# Altium footprint library Common.PcbLib: 18 footprints (part 1 of 2)
Each footprint in its own frame and in the unit in brackets; x right, y up, seen from the top. Pads: shape width x height; smd on the part's side, far side on the other; paste and mask are expansions set on the pad; w line width, h text height; cw(c..) or ccw(c..) is an arc to the next point about the centre after c.
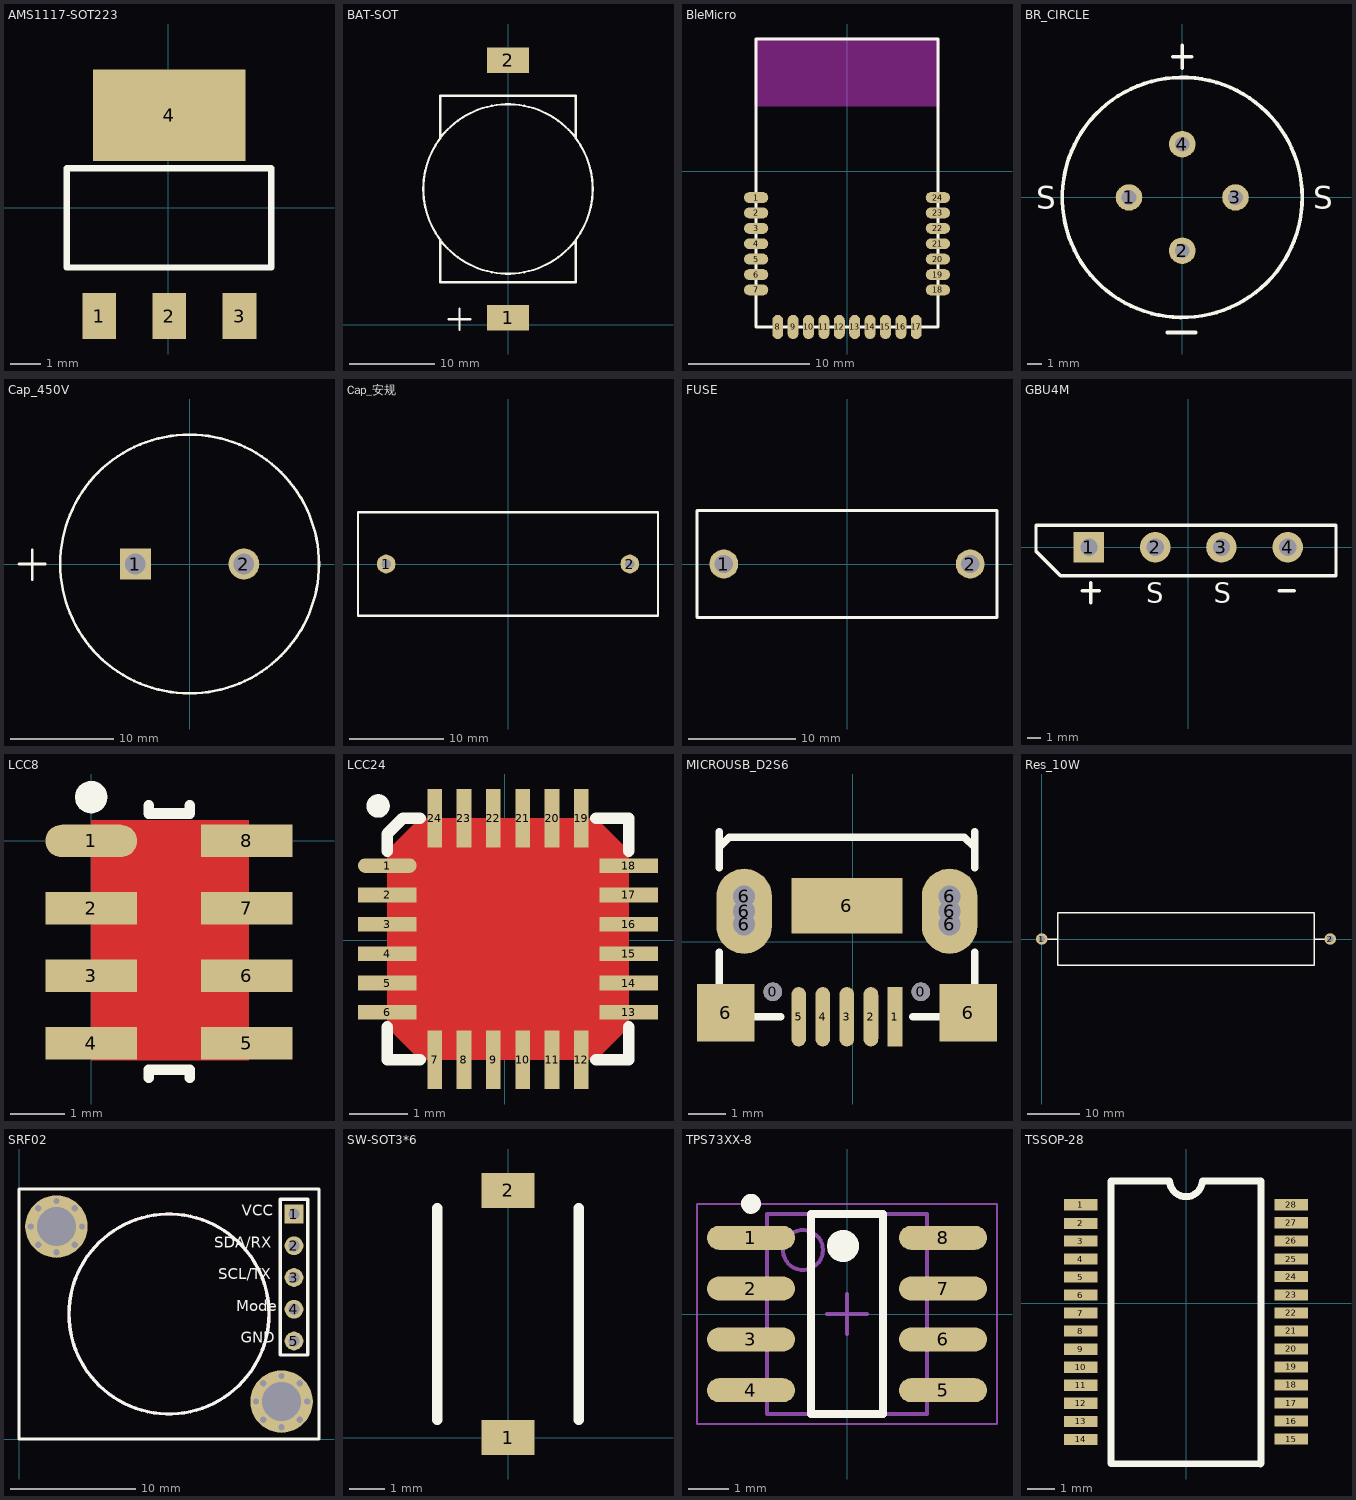
[diagram p0: the footprints below, top view; thin cyan lines are the x and y axes]

## AMS1117-SOT223 [mm]
pads (4):
  rect 1.1x1.5 smd: 1(-2.264,-3.548) 2(0.036,-3.548) 3(2.336,-3.548)
  rect 5x3 smd: 4(0.03,3.028)
Top Overlay:
  lines w0.2: -3.325,-1.956 -3.325,1.294 3.375,1.294 3.375,-1.956 -3.325,-1.956
3D body: height 1.7, standoff 0, extent -3.195,-3.78 3.305,3.18

## BAT-SOT [mm] "贴片封装"
height 5.5
pads (2):
  rect 5x3 smd: 1(0,0.8) 2(0,31.2)
Top Overlay:
  circle w0.254: c0,16 r10
  lines w0.254: -8,10.032 -8,5 8,5 8,9.905 ; -8,21.972 -8,27 8,27 8,21.972 ; -6.985,0.635 -4.445,0.635 ; -5.715,-0.635 -5.715,1.905

## BleMicro [mm]
height 1.7
pads (24):
  oval 2x0.9 smd: 1(-7.493,-2.159) 2(-7.493,-3.429) 3(-7.493,-4.699) 4(-7.493,-5.969) 5(-7.493,-7.239) 6(-7.493,-8.509) 7(-7.493,-9.779) 18(7.493,-9.779) 19(7.493,-8.509) 20(7.493,-7.239) 21(7.493,-5.969) 22(7.493,-4.699) 23(7.493,-3.429) 24(7.493,-2.159)
  oval 0.9x2 smd: 8(-5.715,-12.827) 9(-4.445,-12.827) 10(-3.175,-12.827) 11(-1.905,-12.827) 12(-0.635,-12.827) 13(0.635,-12.827) 14(1.905,-12.827) 15(3.175,-12.827) 16(4.445,-12.827) 17(5.715,-12.827)
Top Overlay:
  lines w0.254: -7.493,-12.827 7.493,-12.827 7.493,10.922 -7.493,10.922 -7.493,-12.827
Keep-Out Layer:
  board cut-out: -7.493,10.922 -7.493,5.461 7.493,5.461 7.493,10.922
  lines w0.254: -7.493,5.461 7.493,5.461 7.493,10.922 -7.493,10.922 -7.493,5.461

## BR_CIRCLE [mm]
height 5.35
pads (4):
  round 1.8 hole 1: 1(-3.606,0) 2(0,-3.606) 3(3.606,0) 4(0,3.606)
Top Overlay:
  circle w0.254: c0,0 r8.129
  lines w0.254: -1.016,-9.144 0.889,-9.144 ; -0.635,9.525 0.635,9.525 ; 0,8.763 0,10.287
  text "S" at -9.906,-0.762 h1.52
  text "S" at 8.89,-0.762 h1.52

## Cap_450V [mm]
height 42
pads (2):
  rect 3x3 hole 2: 1(-5.25,0)
  round 3 hole 2: 2(5.25,0)
Top Overlay:
  circle w0.254: c0,0 r12.524
  lines w0.254: -16.51,0 -13.97,0 ; -15.24,-1.524 -15.24,1.397

## Cap_安规 [mm]
height 20
pads (2):
  round 2 hole 1: 1(-13,0) 2(13,0)
Top Overlay:
  lines w0.254: -16,-5.5 -16,5.5 16,5.5 16,-5.5 -16,-5.5

## FUSE [mm] "保险丝座"
height 17
pads (2):
  round 2.7 hole 1.7: 1(-11.5,0) 2(11.5,0)
Top Overlay:
  lines w0.254: -14,-5 -14,5 14,5 14,-5 -14,-5

## GBU4M [mm]
height 21
pads (4):
  rect 2.3x2.3 hole 1.3: 1(-7.5,0)
  round 2.3 hole 1.3: 2(-2.5,0) 3(2.5,0) 4(7.5,0)
Top Overlay:
  lines w0.254: -8.001,-3.302 -6.731,-3.302 ; -7.366,-4.191 -7.366,-2.667 ; 6.858,-3.302 8.001,-3.302 ; -11.5,-0.311 -9.651,-2.16 11.15,-2.16 11.15,1.651 -11.5,1.651 -11.5,-0.311
  text "S" at 1.905,-4.191 h1.52
  text "S" at -3.175,-4.191 h1.52

## LCC8 [mm]
pads (8):
  oval 1.7x0.6 smd: 1(0,0)
  rect 1.7x0.6 smd: 2(0,-1.25) 3(0,-2.5) 4(0,-3.75) 5(2.886,-3.75) 6(2.886,-2.5) 7(2.886,-1.25) 8(2.886,0)
Top Layer:
  pour cut-out: 0,0.381 0,-4.064 2.921,-4.064 2.921,0.381
Top Overlay:
  circle w0.3: c0,0.813 r0.15
  lines w0.2: 1.067,-4.392 1.067,-4.242 1.472,-4.242 ; 1.067,0.658 1.067,0.508 1.472,0.508 ; 1.422,-4.242 1.829,-4.242 1.829,-4.392 ; 1.422,0.508 1.829,0.508 1.829,0.658

## LCC24 [mm]
pads (24):
  oval 1x0.25 smd: 1(-2.001,1.27)
  rect 1x0.25 smd: 2(-2.001,0.77) 3(-2.001,0.27) 4(-2.001,-0.23) 5(-2.001,-0.73) 6(-2.001,-1.23) 13(2.109,-1.23) 14(2.109,-0.73) 15(2.109,-0.23) 16(2.109,0.27) 17(2.109,0.77) 18(2.109,1.27)
  rect 0.25x1 smd: 7(-1.196,-2.035) 8(-0.696,-2.035) 9(-0.196,-2.035) 10(0.304,-2.035) 11(0.804,-2.035) 12(1.304,-2.035) 19(1.304,2.075) 20(0.804,2.075) 21(0.304,2.075) 22(-0.196,2.075) 23(-0.696,2.075) 24(-1.196,2.075)
Top Layer:
  pour cut-out: -1.446,2.075 -2.001,1.52 -2.001,-1.48 -1.446,-2.035 1.554,-2.035 2.109,-1.48 2.109,1.52 1.554,2.075
Top Overlay:
  circle w0.2: c-2.159,2.286 r0.1
  lines w0.2: -2.001,-1.48 -2.001,-2.035 -1.446,-2.035 ; -2.001,1.52 -2.001,1.809 -1.735,2.075 -1.446,2.075 ; 1.554,-2.035 2.109,-2.035 ; 1.554,2.075 2.109,2.075 ; 2.109,-2.032 2.109,-1.48 ; 2.109,1.52 2.109,2.032

## MICROUSB_D2S6 [mm]
height 1.35
pads (16):
  round 0.5 hole 0.5: 0(-2.157,-1.357) 0(1.843,-1.357)
  rect 0.4x1.6 smd: 1(1.143,-2.032)
  oval 0.4x1.6 smd: 2(0.493,-2.032) 3(-0.157,-2.032) 4(-0.807,-2.032) 5(-1.457,-2.032)
  rect 1.55x1.55 smd: 6(-3.429,-1.929) 6(3.124,-1.929)
  round 0.8 hole 0.6: 6(-2.932,0.468) 6(-2.932,1.218) 6(2.618,0.468) 6(2.618,1.218)
  oval 1.5x2.3 hole 0.6: 6(-2.932,0.818) 6(2.618,0.818)
  rect 3x1.5 smd: 6(-0.157,0.968)
Top Overlay:
  lines w0.2: -3.607,-0.294 -3.607,-2.032 -1.935,-2.032 ; -3.607,1.992 -3.607,2.968 ; 1.621,-2.032 3.293,-2.032 3.293,-0.294 ; 3.293,1.992 3.293,2.968
  lines w0.203: -3.607,2.54 -3.329,2.818 2.872,2.818 3.015,2.818 3.293,2.54

## Res_10W [mm]
height 10
pads (2):
  round 2.2 hole 1.2: 1(0,0) 2(55,0)
Top Overlay:
  lines w0.254: 0,0 2.873,0 ; 52.127,0 55,0 ; 3,-5 3,5 52,5 52,-5 3,-5

## SRF02 [mm]
height 17
pads (7):
  rect 1.5x1.5 hole 0.9: 1(22,18)
  round 1.5 hole 0.9: 2(22,15.46) 3(22,12.92) 4(22,10.38) 5(22,7.84)
  round 5 hole 3.1: ""(3,17) ""(21,3)
via 3,14.95 diameter 0.6 hole 0.5
via 4.464,15.536 diameter 0.6 hole 0.5
via 1.536,15.536 diameter 0.6 hole 0.5
via 0.95,17 diameter 0.6 hole 0.5
via 3,19.05 diameter 0.6 hole 0.5
via 4.464,18.464 diameter 0.6 hole 0.5
via 5.05,17 diameter 0.6 hole 0.5
via 1.536,18.464 diameter 0.6 hole 0.5
via 21,0.95 diameter 0.6 hole 0.5
via 22.464,1.536 diameter 0.6 hole 0.5
via 19.536,1.536 diameter 0.6 hole 0.5
via 18.95,3 diameter 0.6 hole 0.5
via 21,5.05 diameter 0.6 hole 0.5
via 22.464,4.464 diameter 0.6 hole 0.5
via 23.05,3 diameter 0.6 hole 0.5
via 19.536,4.464 diameter 0.6 hole 0.5
Top Overlay:
  circle w0.254: c12,10 r8
  lines w0.254: 0,0 24,0 24,20 0,20 0,0 ; 20.9,6.731 20.9,19.177 23.1,19.177 23.1,6.731 20.9,6.731
  text "GND" at 17.74,7.366 h1.52
  text "Mode" at 17.37,9.905 h1.52
  text "SCL/TX" at 15.923,12.446 h1.52
  text "SDA/RX" at 15.621,14.986 h1.52
  text "VCC" at 17.806,17.526 h1.52
Mechanical 13:
  circle w0.254: c12,10 r8

## SW-SOT3*6 [mm]
height 2.5
pads (2):
  rect 1.5x1 smd: 1(0,0) 2(0,7)
Top Overlay:
  lines w0.3: -2,0.5 -2,6.5 ; 2,0.5 2,6.5

## TPS73XX-8 [mm] "SOIC, 8-Leads, Body 4.9x3.9mm, Pitch 1.27mm, IPC Medium Density"
height 1.75
pads (8):
  oval 2.2x0.6 smd: 1(-2.4,1.905) 2(-2.4,0.635) 3(-2.4,-0.635) 4(-2.4,-1.905) 5(2.4,-1.905) 6(2.4,-0.635) 7(2.4,0.635) 8(2.4,1.905)
Top Overlay:
  circle w0.25: c-2.4,2.755 r0.125
  circle w0.4: c-0.1,1.7 r0.2
  lines w0.2: -0.9,-2.5 -0.9,2.5 0.9,2.5 0.9,-2.5 -0.9,-2.5
Mechanical 13:
  circle w0.1: c-1.1,1.6 r0.5
  lines w0.1: -2,-2.5 -2,2.5 2,2.5 2,-2.5 -2,-2.5
Mechanical 15:
  lines w0.05: -3.75,-2.75 -3.75,2.75 3.75,2.75 3.75,-2.75 -3.75,-2.75
  lines w0.1: -0.5,0 0.5,0 ; 0,-0.5 0,0.5
3D body: height 1.75, standoff 0.1, extent -2,-2.5 2,2.5

## TSSOP-28 [mm]
height 4.7
pads (28):
  rect 1.2x0.4 smd: 1(-3.81,3.556) 2(-3.81,2.886) 3(-3.81,2.246) 4(-3.81,1.596) 5(-3.81,0.946) 6(-3.81,0.296) 7(-3.81,-0.354) 8(-3.81,-1.004) 9(-3.81,-1.654) 10(-3.81,-2.304) 11(-3.81,-2.954) 12(-3.81,-3.604) 13(-3.81,-4.254) 14(-3.81,-4.904) 15(3.79,-4.894) 16(3.79,-4.244) 17(3.79,-3.594) 18(3.79,-2.944) 19(3.79,-2.294) 20(3.79,-1.644) 21(3.79,-0.994) 22(3.79,-0.344) 23(3.79,0.306) 24(3.79,0.966) 25(3.79,1.596) 26(3.79,2.256) 27(3.79,2.906) 28(3.79,3.556)
Top Overlay:
  lines w0.254: -0.601,4.416 -2.71,4.416 -2.71,-5.784 2.68,-5.794 ; -0.6,4.418 ccw(c-0.01,4.436) 0.58,4.416 2.69,4.416 2.69,-5.784